# Altium schematic symbol library IND-FER.Schlib: 1 symbol
Pins are listed as number, name and electrical type; pins without a type are passive.

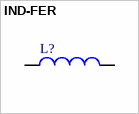
[diagram p0: symbol IND-FER]

## IND-FER
designator L?
Ferrite Bead
pins: 1, 2